# Altium footprint library 004-H-01.PcbLib: 26 footprints (part 1 of 2)
Each footprint in its own frame and in the unit in brackets; x right, y up, seen from the top. Pads: shape width x height; smd on the part's side, far side on the other; paste and mask are expansions set on the pad; w line width, h text height; cw(c..) or ccw(c..) is an arc to the next point about the centre after c.
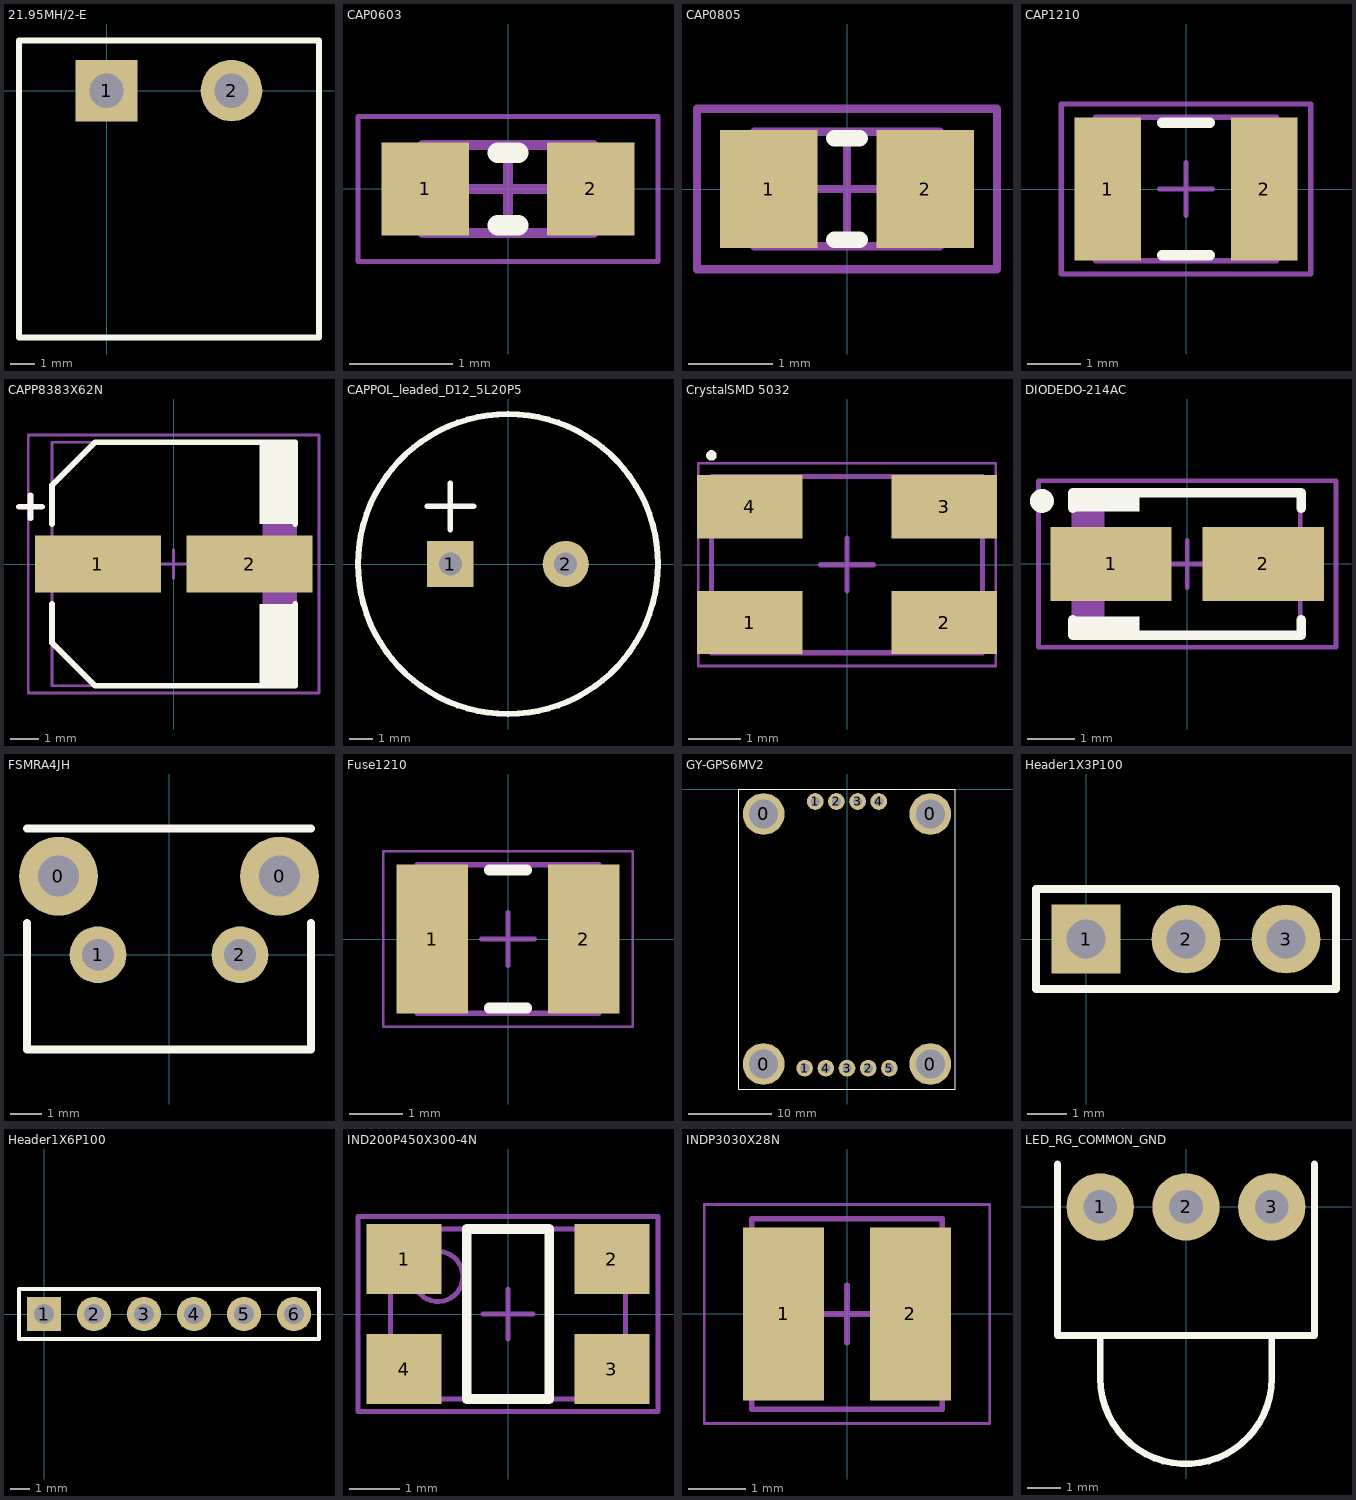
[diagram p0: the footprints below, top view; thin cyan lines are the x and y axes]

## 21.95MH/2-E [mm] "Terminal Block, Horizontal, Header, 5.08 mm, 2 Ways"
pads (2):
  rect 2.5x2.5 hole 1.4: 1(0,0)
  round 2.5 hole 1.4: 2(5.08,0)
Top Overlay:
  lines w0.254: -3.556,-10.033 8.636,-10.033 8.636,2.032 -3.556,2.032 -3.556,-10.033
3D body "pxc_1757242_06_MSTBA-2-5-2-G-5-08_3D (1).stp": height 8.6, standoff -3.5, extent -3.54,-10 8.62,2.002

## CAP0603 [mm] "Chip Capacitor 0603"
height 0.6
pads (2):
  rect 0.85x0.9 smd: 1(-0.8,0) 2(0.8,0)
Top Overlay:
  lines w0.2: -0.1,-0.35 0.1,-0.35 ; -0.1,0.35 0.1,0.35
Assembly Top:
  lines w0.1: -0.825,-0.425 0.825,-0.425 0.825,0.425 -0.825,0.425 -0.825,-0.425
Courtyard Top:
  lines w0.05: -1.45,-0.7 1.45,-0.7 1.45,0.7 -1.45,0.7 -1.45,-0.7
  lines w0.1: -0.425,0 0.425,0 ; 0,-0.425 0,0.425
3D body: height 0.6, standoff 0, extent 0.575,-0.425 0.825,0.425
3D body: height 0.6, standoff 0, extent -0.825,-0.425 -0.575,0.425
3D body: height 0.6, standoff 0, extent -0.575,-0.425 0.575,0.425

## CAP0805 [mm] "Chip Capacitor, 2-Leads, Body 2.0x1.3mm, IPC Medium Density"
height 0.7
pads (2):
  rect 1.15x1.4 smd: 1(-0.925,0) 2(0.925,0)
Top Overlay:
  lines w0.2: -0.15,-0.6 0.15,-0.6 ; -0.15,0.6 0.15,0.6
Mechanical 13:
  lines w0.1: -1.1,-0.675 -1.1,0.675 1.1,0.675 1.1,-0.675 -1.1,-0.675
Mechanical 15:
  lines w0.1: -0.5,0 0.5,0 ; 0,-0.5 0,0.5 ; -1.775,-0.95 -1.775,0.95 1.775,0.95 1.775,-0.95 -1.775,-0.95
3D body: height 0.7, standoff 0, extent -1.1,-0.675 1.1,0.675
3D body "CAP_0805.step": height 0.95, standoff 0, extent -1,-0.6 1,0.6

## CAP1210 [mm] "Chip Capacitor, 2-Leads, Body 3.2x2.5mm, IPC Medium Density"
height 0.7
pads (2):
  rect 1.25x2.7 smd: 1(-1.475,0) 2(1.475,0)
Top Overlay:
  lines w0.2: -0.45,-1.25 0.45,-1.25 ; -0.45,1.25 0.45,1.25
Mechanical 13:
  lines w0.1: -1.7,-1.35 1.7,-1.35 1.7,1.35 -1.7,1.35 -1.7,-1.35
Mechanical 15:
  lines w0.1: -0.5,0 0.5,0 ; 0,-0.5 0,0.5 ; -2.35,-1.6 2.35,-1.6 2.35,1.6 -2.35,1.6 -2.35,-1.6
3D body: height 0.7, standoff 0, extent -1.7,-1.35 1.7,1.35
3D body "User Library-cap_1210_lowprofile.step": height 1.3, standoff 0, extent -1.6,-1.25 1.6,1.25

## CAPP8383X62N [mm] "Capacitor SMD, 2-Leads, Body 8.3x8.3mm, IPC Medium Density"
height 6.2
pads (2):
  rect 4.4x2 smd: 1(-2.65,0) 2(2.65,0)
Top Overlay:
  rectangle: 3,-4.2 4.25,-1.4
  rectangle: 3,1.4 4.25,4.2
  lines w0.2: -5.4,2 -4.6,2 ; -5,1.6 -5,2.4 ; -4.25,-1.4 -4.25,-2.75 -2.75,-4.25 4.25,-4.25 4.25,-1.4 ; -4.25,1.4 -4.25,2.75 -2.75,4.25 4.25,4.25 4.25,1.4
Mechanical 13:
  region: 4.25,4.25 3.107,4.25 3.107,-4.25 4.25,-4.25
  lines w0.1: -4.25,-4.25 -4.25,4.25 4.25,4.25 4.25,-4.25 -4.25,-4.25
Mechanical 15:
  lines w0.1: -0.5,0 0.5,0 ; 0,-0.5 0,0.5 ; -5.075,-4.5 -5.075,4.5 5.075,4.5 5.075,-4.5 -5.075,-4.5
3D body: height 6.2, standoff 0, extent -4.25,-4.25 4.25,4.25

## CAPPOL_leaded_D12_5L20P5 [mm]
pads (2):
  rect 2x2 hole 1: 1(-2.5,0)
  round 2 hole 1: 2(2.5,0)
Top Overlay:
  circle w0.254: c0,0 r6.5
  lines w0.254: -3.5,2.5 -1.5,2.5 ; -2.5,1.5 -2.5,3.5
3D body: height 20, standoff 0, extent -6.25,-6.247 6.25,6.247

## CrystalSMD 5032 [mm] "DFN, 4-Leads, Body 3.20x5.00mm, Pitch 3.80mm, IPC Medium Density"
height 0.4
pads (4):
  rect 2x1.2 smd: 1(-1.85,-1.1) 2(1.85,-1.1) 3(1.85,1.1) 4(-1.85,1.1)
Top Overlay:
  circle w0.1: c-2.575,2.075 r0.05
Assembly Top:
  lines w0.1: -2.575,-1.675 -2.575,1.675 2.575,1.675 2.575,-1.675 -2.575,-1.675
Courtyard Top:
  lines w0.05: -2.825,-1.925 -2.825,1.925 2.825,1.925 2.825,-1.925 -2.825,-1.925
  lines w0.1: -0.5,0 0.5,0 ; 0,-0.5 0,0.5
3D body: height 0.4, standoff 0, extent -2.575,-1.675 2.575,1.675

## DIODEDO-214AC [mm] "Molded Diode, 2-Leads, Body 4.4x2.7mm, IPC Medium Density"
height 2.4
pads (2):
  rect 2.55x1.55 smd: 1(-1.6,0) 2(1.6,0)
Top Overlay:
  circle w0.25: c-3.05,1.325 r0.125
  rectangle: -2.4,-1.5 -1,-1.1
  rectangle: -2.4,1.1 -1,1.5
  lines w0.2: -2.4,-1.175 -2.4,-1.5 2.4,-1.5 2.4,-1.175 ; -2.4,1.175 -2.4,1.5 2.4,1.5 2.4,1.175
Mechanical 13:
  rectangle: -2.375,-1.475 -1.736,1.475
  lines w0.1: -2.375,-1.475 -2.375,1.475 2.375,1.475 2.375,-1.475 -2.375,-1.475
Mechanical 15:
  lines w0.1: -0.5,0 0.5,0 ; 0,-0.5 0,0.5 ; -3.125,-1.75 -3.125,1.75 3.125,1.75 3.125,-1.75 -3.125,-1.75
3D body: height 2.4, standoff 0, extent -2.375,-1.475 2.375,1.475
3D body "User Library-DO-214AC_SMA.step": height 2.15, standoff -0.05, extent -2.5,-1.35 2.5,1.35

## FSMRA4JH [mm] "Tactile switch side actuated"
pads (4):
  round 2.5 hole 1.3: 0(-3.505,2.49) 0(3.505,2.49)
  round 1.8 hole 1: 1(-2.25,0) 2(2.25,0)
Top Overlay:
  lines w0.254: -4.5,1 -4.5,-3 4.5,-3 4.5,1 ; -4.5,4 4.5,4
3D body "c-1-1825027-1-g-3d.stp": height 7, standoff -3.52, extent -4.204,-8.357 4.204,4

## Fuse1210 [mm]
height 0.85
pads (2):
  rect 1.35x2.8 smd: 1(-1.425,0) 2(1.425,0)
Top Overlay:
  lines w0.2: -0.35,-1.3 0.35,-1.3 ; -0.35,1.3 0.35,1.3
Assembly Top:
  lines w0.1: -1.715,-1.4 -1.715,1.4 1.715,1.4 1.715,-1.4 -1.715,-1.4
Courtyard Top:
  lines w0.05: -2.35,-1.65 -2.35,1.65 2.35,1.65 2.35,-1.65 -2.35,-1.65
  lines w0.1: -0.5,0 0.5,0 ; 0,-0.5 0,0.5
3D body: height 0.85, standoff 0, extent -1.215,-1.4 1.215,1.4
3D body: height 0.85, standoff 0, extent -1.715,-1.4 -1.215,1.4
3D body: height 0.85, standoff 0, extent 1.215,-1.4 1.715,1.4

## GY-GPS6MV2 [mm] "GPS module"
pads (13):
  round 5 hole 3.5: 0(-10,-33) 0(-10,-3) 0(10,-33) 0(10,-3)
  round 2 hole 1.1: 1(-5.08,-33.5) 1(-3.81,-1.5) 2(-1.27,-1.5) 2(2.54,-33.5) 3(0,-33.5) 3(1.27,-1.5) 4(-2.54,-33.5) 4(3.81,-1.5) 5(5.08,-33.5)
Top Overlay:
  lines w0.127: -13,-36 -13,0 13,0 13,-36 -13,-36

## Header1X3P100 [mm] "Header 1X3, 100mil pitch"
pads (3):
  rect 1.75x1.75 hole 1: 1(0,0)
  round 1.75 hole 1: 2(2.54,0) 3(5.08,0)
Top Overlay:
  lines w0.2: -1.27,-1.27 -1.27,1.27 6.35,1.27 6.35,-1.27 -1.27,-1.27
3D body: height 9, standoff 0, extent -1.27,-1.27 6.35,1.27

## Header1X6P100 [mm] "Header 1X6, 100mil pitch"
pads (6):
  rect 1.75x1.75 hole 1: 1(0,0)
  round 1.75 hole 1: 2(2.54,0) 3(5.08,0) 4(7.62,0) 5(10.16,0) 6(12.7,0)
Top Overlay:
  lines w0.2: -1.27,-1.27 -1.27,1.27 13.97,1.27 13.97,-1.27 -1.27,-1.27
3D body "User Library-Header_Male_6Pin.STEP": height 8.54, standoff -3, extent -1.27,-1.245 13.97,1.245
3D body: height 9, standoff 0, extent -1.27,-1.27 13.97,1.27

## IND200P450X300-4N [mm] "IND, 4-Leads, Body 3.4x4.7mm (max), Pitch 2.00mm, IPC Medium Density"
height 3
pads (4):
  rect 1.5x1.4 smd: 1(-2.075,1.1) 2(2.075,1.1) 3(2.075,-1.1) 4(-2.075,-1.1)
Top Overlay:
  lines w0.2: -0.825,-1.7 -0.825,1.7 0.825,1.7 0.825,-1.7 -0.825,-1.7
Mechanical 13:
  circle w0.1: c-1.4,0.75 r0.5
  lines w0.1: -2.35,-1.7 -2.35,1.7 2.35,1.7 2.35,-1.7 -2.35,-1.7
Mechanical 15:
  lines w0.1: -0.5,0 0.5,0 ; 0,-0.5 0,0.5 ; -3,-1.95 -3,1.95 3,1.95 3,-1.95 -3,-1.95
3D body: height 3, standoff 0, extent -2.35,-1.7 2.35,1.7

## INDP3030X28N [mm] "Precision Wire Wound Inductor, 2-Leads, Body 3,00x3,00mm, IPC Medium Density"
height 2.8
pads (2):
  rect 1.4x3 smd: 1(-1.1,0) 2(1.1,0)
Assembly Top:
  lines w0.1: -1.65,-1.65 1.65,-1.65 1.65,1.65 -1.65,1.65 -1.65,-1.65
Courtyard Top:
  lines w0.05: -2.475,-1.9 2.475,-1.9 2.475,1.9 -2.475,1.9 -2.475,-1.9
  lines w0.1: -0.5,0 0.5,0 ; 0,-0.5 0,0.5
3D body "User Library-SDR0302.STEP": height 3, standoff 0, extent -1.5,-1.492 1.5,1.492

## LED_RG_COMMON_GND [mm]
pads (3):
  round 2 hole 1: 1(-2.54,0) 2(0,0) 3(2.54,0)
Top Overlay:
  lines w0.2: -3.81,1.27 -3.81,-3.81 3.81,-3.81 3.81,1.27 ; -2.54,-3.81 -2.54,-5.08 ccw(c0,-5.08) 2.54,-5.08 2.54,-3.81